# Altium footprint library QFP-100_14x20x065P.PcbLib: 1 footprints
Each footprint in its own frame and in the unit in brackets; x right, y up, seen from the top. Pads: shape width x height; smd on the part's side, far side on the other; paste and mask are expansions set on the pad; w line width, h text height; cw(c..) or ccw(c..) is an arc to the next point about the centre after c.
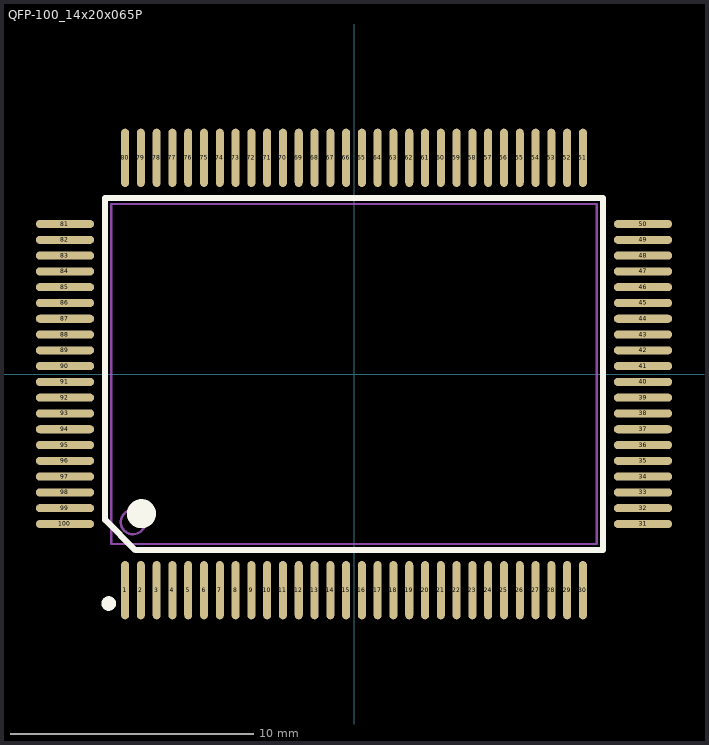
[diagram p0: the footprint, top view; thin cyan lines are the x and y axes]

## QFP-100_14x20x065P [mm]
pads (100):
  oval 0.33x2.4 smd: 1(-9.425,-8.9) 2(-8.775,-8.9) 3(-8.125,-8.9) 4(-7.475,-8.9) 5(-6.825,-8.9) 6(-6.175,-8.9) 7(-5.525,-8.9) 8(-4.875,-8.9) 9(-4.225,-8.9) 10(-3.575,-8.9) 11(-2.925,-8.9) 12(-2.275,-8.9) 13(-1.625,-8.9) 14(-0.975,-8.9) 15(-0.325,-8.9) 16(0.325,-8.9) 17(0.975,-8.9) 18(1.625,-8.9) 19(2.275,-8.9) 20(2.925,-8.9) 21(3.575,-8.9) 22(4.225,-8.9) 23(4.875,-8.9) 24(5.525,-8.9) 25(6.175,-8.9) 26(6.825,-8.9) 27(7.475,-8.9) 28(8.125,-8.9) 29(8.775,-8.9) 30(9.425,-8.9) 51(9.425,8.9) 52(8.775,8.9) 53(8.125,8.9) 54(7.475,8.9) 55(6.825,8.9) 56(6.175,8.9) 57(5.525,8.9) 58(4.875,8.9) 59(4.225,8.9) 60(3.575,8.9) 61(2.925,8.9) 62(2.275,8.9) 63(1.625,8.9) 64(0.975,8.9) 65(0.325,8.9) 66(-0.325,8.9) 67(-0.975,8.9) 68(-1.625,8.9) 69(-2.275,8.9) 70(-2.925,8.9) 71(-3.575,8.9) 72(-4.225,8.9) 73(-4.875,8.9) 74(-5.525,8.9) 75(-6.175,8.9) 76(-6.825,8.9) 77(-7.475,8.9) 78(-8.125,8.9) 79(-8.775,8.9) 80(-9.425,8.9)
  oval 2.4x0.33 smd: 31(11.9,-6.175) 32(11.9,-5.525) 33(11.9,-4.875) 34(11.9,-4.225) 35(11.9,-3.575) 36(11.9,-2.925) 37(11.9,-2.275) 38(11.9,-1.625) 39(11.9,-0.975) 40(11.9,-0.325) 41(11.9,0.325) 42(11.9,0.975) 43(11.9,1.625) 44(11.9,2.275) 45(11.9,2.925) 46(11.9,3.575) 47(11.9,4.225) 48(11.9,4.875) 49(11.9,5.525) 50(11.9,6.175) 81(-11.9,6.175) 82(-11.9,5.525) 83(-11.9,4.875) 84(-11.9,4.225) 85(-11.9,3.575) 86(-11.9,2.925) 87(-11.9,2.275) 88(-11.9,1.625) 89(-11.9,0.975) 90(-11.9,0.325) 91(-11.9,-0.325) 92(-11.9,-0.975) 93(-11.9,-1.625) 94(-11.9,-2.275) 95(-11.9,-2.925) 96(-11.9,-3.575) 97(-11.9,-4.225) 98(-11.9,-4.875) 99(-11.9,-5.525) 100(-11.9,-6.175)
Top Overlay:
  circle w0.6: c-8.75,-5.75 r0.3
  circle w0.3: c-10.1,-9.45 r0.15
  lines w0.254: -10.25,-6 -9,-7.25 10.25,-7.25 10.25,7.25 -10.25,7.25 -10.25,-6
Mechanical 13:
  circle w0.1: c-9.1,-6.1 r0.5
  lines w0.1: -10,-7 -10,7 10,7 10,-7 -10,-7